# Altium schematic symbol library KXO-V97T.SchLib: 1 symbol
Pins are listed as number, name and electrical type; pins without a type are passive.

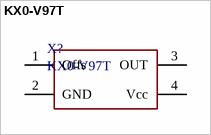
[diagram p0: symbol KX0-V97T]

## KX0-V97T
designator X?
Clock oscilators
footprint KXO-V97T
pins: 1 Offs "Termal Pad", 2 GND "Termal Pad", 3 OUT "Termal Pad", 4 Vcc "Termal Pad"